# Altium footprint library HyTechDevices.PCBLIB: 204 footprints (part 13 of 13)
Each footprint in its own frame and in the unit in brackets; x right, y up, seen from the top. Pads: shape width x height; smd on the part's side, far side on the other; paste and mask are expansions set on the pad; w line width, h text height; cw(c..) or ccw(c..) is an arc to the next point about the centre after c.
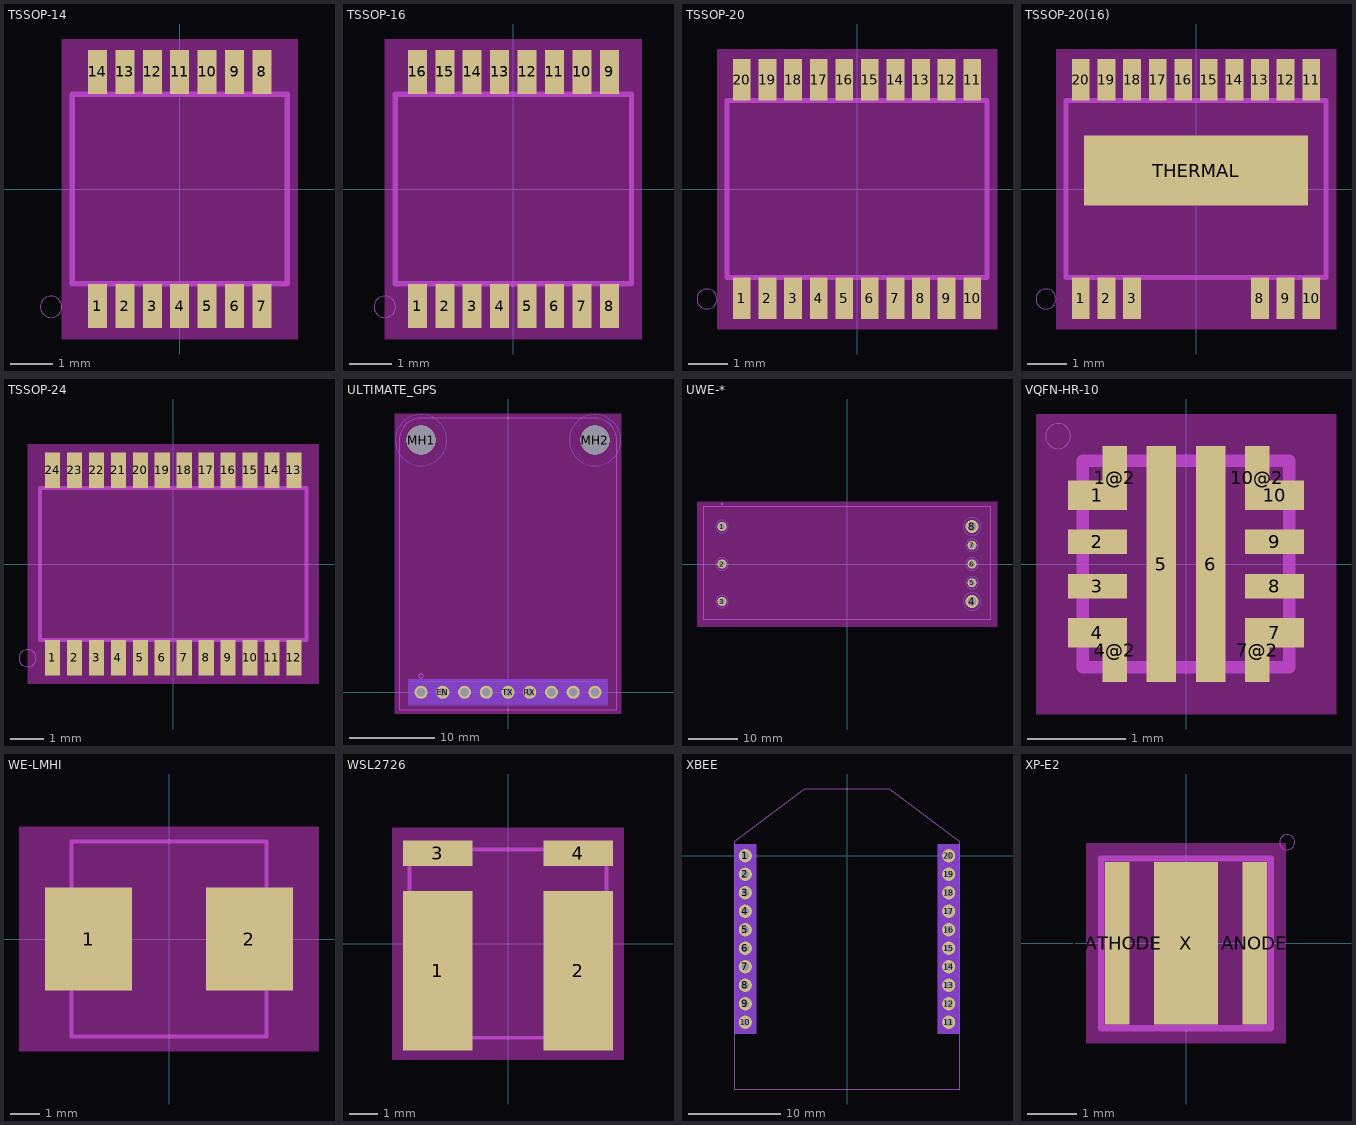
[diagram p12: the footprints below, top view; thin cyan lines are the x and y axes]

## TSSOP-14 [mm]
pads (14):
  rect 0.45x1.05 smd: 1(-1.95,-2.775) 2(-1.3,-2.775) 3(-0.65,-2.775) 4(0,-2.775) 5(0.65,-2.775) 6(1.3,-2.775) 7(1.95,-2.775) 8(1.95,2.775) 9(1.3,2.775) 10(0.65,2.775) 11(0,2.775) 12(-0.65,2.775) 13(-1.3,2.775) 14(-1.95,2.775)
Top keep-out:
  region: -2.794,-3.556 -2.794,3.556 2.794,3.556 2.794,-3.556
tPlace:
  circle w0: c-3.048,-2.794 r0.254
  lines w0.127: -2.55,-2.25 2.55,-2.25 2.55,2.25 -2.55,2.25 -2.55,-2.25

## TSSOP-16 [mil]
pads (16):
  rect 17.72x41.34 smd: 1(-89.57,-109.25) 2(-63.98,-109.25) 3(-38.39,-109.25) 4(-12.8,-109.25) 5(12.8,-109.25) 6(38.39,-109.25) 7(63.98,-109.25) 8(89.57,-109.25) 9(89.57,109.25) 10(63.98,109.25) 11(38.39,109.25) 12(12.8,109.25) 13(-12.8,109.25) 14(-38.39,109.25) 15(-63.98,109.25) 16(-89.57,109.25)
Top keep-out:
  region: -120,-140 -120,140 120,140 120,-140
tPlace:
  circle w0: c-120,-110 r10
  lines w5: -110.24,-88.58 110.24,-88.58 110.24,88.58 -110.24,88.58 -110.24,-88.58

## TSSOP-20 [mil]
pads (20):
  rect 17.72x41.34 smd: 1(-115.16,-109.25) 2(-89.57,-109.25) 3(-63.98,-109.25) 4(-38.39,-109.25) 5(-12.8,-109.25) 6(12.8,-109.25) 7(38.39,-109.25) 8(63.98,-109.25) 9(89.57,-109.25) 10(115.16,-109.25) 11(115.16,109.25) 12(89.57,109.25) 13(63.98,109.25) 14(38.39,109.25) 15(12.8,109.25) 16(-12.8,109.25) 17(-38.39,109.25) 18(-63.98,109.25) 19(-89.57,109.25) 20(-115.16,109.25)
Top keep-out:
  region: -140,-140 -140,140 140,140 140,-140
tPlace:
  circle w0: c-150,-110 r10
  lines w5: -129.92,-88.58 129.92,-88.58 129.92,88.58 -129.92,88.58 -129.92,-88.58

## TSSOP-20(16) [mil]
pads (17):
  rect 17.72x41.34 smd: 1(-115.16,-109.25) 2(-89.57,-109.25) 3(-63.98,-109.25) 8(63.98,-109.25) 9(89.57,-109.25) 10(115.16,-109.25) 11(115.16,109.25) 12(89.57,109.25) 13(63.98,109.25) 14(38.39,109.25) 15(12.8,109.25) 16(-12.8,109.25) 17(-38.39,109.25) 18(-63.98,109.25) 19(-89.57,109.25) 20(-115.16,109.25)
  rect 223.62x70.08 smd: THERMAL(0,18.5)
Top keep-out:
  region: -140,-140 -140,140 140,140 140,-140
tPlace:
  circle w0: c-150,-110 r10
  lines w5: -129.92,-88.58 129.92,-88.58 129.92,88.58 -129.92,88.58 -129.92,-88.58

## TSSOP-24 [mil]
pads (24):
  rect 17.72x41.34 smd: 1(-140.75,-109.25) 2(-115.16,-109.25) 3(-89.57,-109.25) 4(-63.98,-109.25) 5(-38.39,-109.25) 6(-12.8,-109.25) 7(12.8,-109.25) 8(38.39,-109.25) 9(63.98,-109.25) 10(89.57,-109.25) 11(115.16,-109.25) 12(140.75,-109.25) 13(140.75,109.25) 14(115.16,109.25) 15(89.57,109.25) 16(63.98,109.25) 17(38.39,109.25) 18(12.8,109.25) 19(-12.8,109.25) 20(-38.39,109.25) 21(-63.98,109.25) 22(-89.57,109.25) 23(-115.16,109.25) 24(-140.75,109.25)
Top keep-out:
  region: -170,-140 -170,140 170,140 170,-140
tPlace:
  circle w0: c-170,-110 r10
  lines w5: -155.51,-88.58 155.51,-88.58 155.51,88.58 -155.51,88.58 -155.51,-88.58

## ULTIMATE_GPS [mil]
pads (11):
  round 60 hole 40: 3.3V(-400,0) EN(-300,0) FIX(-100,0) GND(200,0) PPS(400,0) RX(100,0) TX(0,0) VBAT(-200,0) VIN(300,0)
  round 133.86 hole 133.86 unplated: MH1(-400,1160) MH2(400,1160)
Top keep-out:
  circle w0: c-400,1160 r118.11
  circle w0: c-400,1160 r118.11
  circle w0: c-400,1160 r118.11
  circle w0: c400,1160 r118.11
  circle w0: c400,1160 r118.11
  circle w0: c400,1160 r118.11
  region: -520,-100 -520,1280 520,1280 520,-100
Bottom keep-out:
  circle w0: c-400,1160 r118.11
  circle w0: c-400,1160 r118.11
  circle w0: c400,1160 r118.11
  circle w0: c400,1160 r118.11
  region: -460,-60 -460,60 460,60 460,-60
tPlace:
  circle w0: c-400,75 r10
  lines w5: -500,-80 500,-80 500,1160 ccw(c400,1160) 400,1260 -400,1260 ccw(c-400,1160) -500,1160 -500,-80 ; -450,-50 450,-50 450,50 -450,50 -450,-50

## UWE-* [mil]
pads (8):
  round 72 hole 48: 1(-1000,300) 2(-1000,0) 3(-1000,-300) 5(1000,-150) 6(1000,0) 7(1000,150)
  round 105 hole 70: 4(1000,-300) 8(1000,300)
Top keep-out:
  region: -1200,-500 -1200,500 1200,500 1200,-500
Bottom keep-out:
  circle w0: c-1000,300 r50
  circle w0: c-1000,0 r50
  circle w0: c-1000,-300 r50
  circle w0: c1000,150 r50
  circle w0: c1000,0 r50
  circle w0: c1000,-150 r50
  circle w0: c1000,300 r70.71
  circle w0: c1000,-300 r70.71
tPlace:
  circle w0: c-1000,480 r5
  lines w5: -1150,-440 -1150,460 1150,460 1150,-440 -1150,-440

## VQFN-HR-10 [mm]
pads (14):
  rect 0.6x0.3 smd: 1(-0.9,0.7) 4(-0.9,-0.7) 7(0.9,-0.7) 10(0.9,0.7)
  rect 0.25x0.65 smd: 1@2(-0.725,0.875) 4@2(-0.725,-0.875) 7@2(0.725,-0.875) 10@2(0.725,0.875)
  rect 0.6x0.25 smd: 2(-0.9,0.225) 3(-0.9,-0.225) 8(0.9,-0.225) 9(0.9,0.225)
  rect 0.3x2.4 smd: 5(-0.25,0) 6(0.25,0)
Top keep-out:
  region: -1.524,-1.524 -1.524,1.524 1.524,1.524 1.524,-1.524
tPlace:
  circle w0: c-1.3,1.3 r0.127
  lines w0.127: -1.05,-1.05 1.05,-1.05 1.05,1.05 -1.05,1.05 -1.05,-1.05

## WE-LMHI [mil]
pads (2):
  rect 116.14x137.8 smd: 1(-107.28,0) 2(107.28,0)
Top keep-out:
  region: -200,-150 -200,150 200,150 200,-150
tPlace:
  lines w5: -129.92,-129.92 129.92,-129.92 129.92,129.92 -129.92,129.92 -129.92,0 -129.92,-129.92

## WSL2726 [mil]
pads (4):
  rect 96x220 smd: 1(-97,-37.5) 2(97,-37.5)
  rect 96x35 smd: 3(-97,125) 4(97,125)
Top keep-out:
  region: -160,-160 -160,160 160,160 160,-160
tPlace:
  lines w5: -136,-130 136,-130 136,130 -136,130 -136,-130

## XBEE [mil]
pads (20):
  round 56 hole 31.5: 1(-433.07,0) 2(-433.07,-78.74) 3(-433.07,-157.48) 4(-433.07,-236.22) 5(-433.07,-314.96) 6(-433.07,-393.7) 7(-433.07,-472.44) 8(-433.07,-551.18) 9(-433.07,-629.92) 10(-433.07,-708.66) 11(433.07,-708.66) 12(433.07,-629.92) 13(433.07,-551.18) 14(433.07,-472.44) 15(433.07,-393.7) 16(433.07,-314.96) 17(433.07,-236.22) 18(433.07,-157.48) 19(433.07,-78.74) 20(433.07,0)
Top keep-out:
  region: -480.32,-757.87 -480.32,49.21 -385.83,49.21 -385.83,-757.87
  region: 385.83,-757.87 385.83,49.21 480.32,49.21 480.32,-757.87
Bottom keep-out:
  region: -480.32,-757.87 -480.32,49.21 -385.83,49.21 -385.83,-757.87
  region: 385.83,-757.87 385.83,49.21 480.32,49.21 480.32,-757.87
tPlace:
  lines w5: -479.92,-992.91 479.92,-992.91 479.92,59.06 181.1,284.25 -181.1,284.25 -479.92,59.06 -479.92,-992.91

## XP-E2 [mil]
pads (3):
  rect 19.69x129.92 smd paste+0: ANODE(55.12,0) CATHODE(-55.12,0)
  rect 51.18x129.92 smd paste+0: X(0,0)
Top keep-out:
  region: -80,-80 -80,80 80,80 80,-80
Top Paste:
  region: -19.7,-14.76 -19.7,14.76 19.7,14.76 19.7,-14.76
  region: -64.96,-64.96 -64.96,64.96 -45.28,64.96 -45.28,-64.96
  region: 45.28,-64.96 45.28,64.96 64.96,64.96 64.96,-64.96
  region: -19.7,24.61 -19.7,54.13 19.7,54.13 19.7,24.61
  region: -19.7,-54.13 -19.7,-24.61 19.7,-24.61 19.7,-54.13
tDocu:
  circle w0: c81,81 r6
  lines w5: -67.91,-67.91 67.91,-67.91 67.91,67.91 -67.91,67.91 -67.91,-67.91